# Altium footprint library RES_ERJU08J224V.PcbLib: 1 footprints
Each footprint in its own frame and in the unit in brackets; x right, y up, seen from the top. Pads: shape width x height; smd on the part's side, far side on the other; paste and mask are expansions set on the pad; w line width, h text height; cw(c..) or ccw(c..) is an arc to the next point about the centre after c.
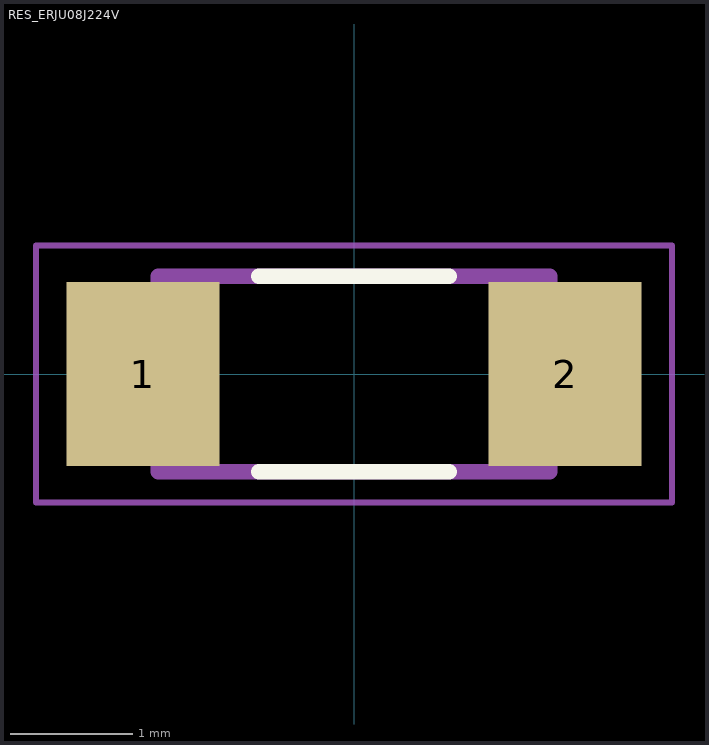
[diagram p0: the footprint, top view; thin cyan lines are the x and y axes]

## RES_ERJU08J224V [mm]
pads (2):
  rect 1.25x1.5 smd: 1(-1.725,0) 2(1.725,0)
Top Overlay:
  lines w0.127: -0.78,-0.8 0.78,-0.8 ; -0.78,0.8 0.78,0.8
Mechanical 13:
  lines w0.127: -1.6,-0.8 1.6,-0.8 1.6,0.8 -1.6,0.8 -1.6,-0.8
Mechanical 15:
  lines w0.05: -2.6,-1.05 2.6,-1.05 2.6,1.05 -2.6,1.05 -2.6,-1.05
3D body "ERJ-U08J224V.STEP": height 0.6, standoff 0, extent -1.6,-0.8 1.6,0.8